# Altium footprint library semicon.PCBLIB: 115 footprints (part 4 of 8)
Each footprint in its own frame and in the unit in brackets; x right, y up, seen from the top. Pads: shape width x height; smd on the part's side, far side on the other; paste and mask are expansions set on the pad; w line width, h text height; cw(c..) or ccw(c..) is an arc to the next point about the centre after c.
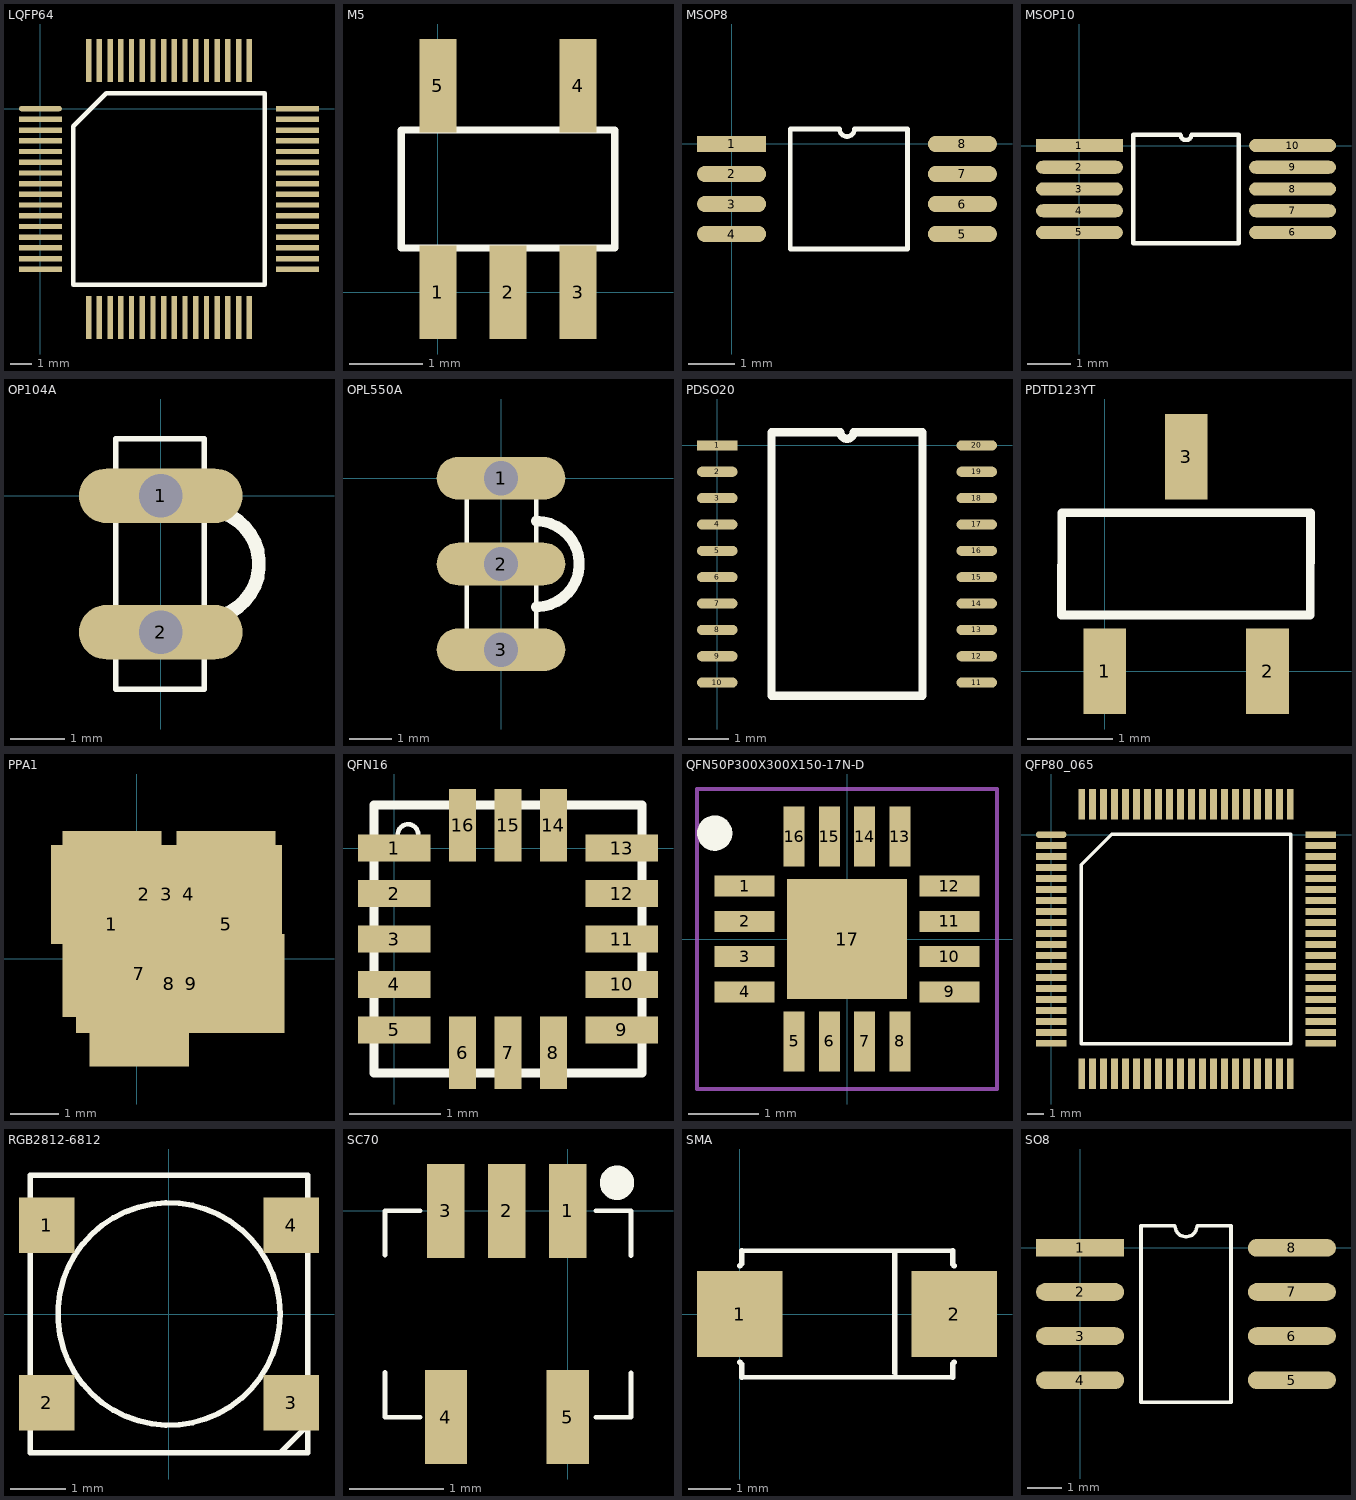
[diagram p3: the footprints below, top view; thin cyan lines are the x and y axes]

## LQFP64 [mm]
pads (64):
  oval 2x0.25 smd: 1(0,0)
  rect 2x0.25 smd: 2(0,-0.5) 3(0,-1) 4(0,-1.5) 5(0,-2) 6(0,-2.5) 7(0,-3) 8(0,-3.5) 9(0,-4) 10(0,-4.5) 11(0,-5) 12(0,-5.5) 13(0,-6) 14(0,-6.5) 15(0,-7) 16(0,-7.5) 33(12,-7.5) 34(12,-7) 35(12,-6.5) 36(12,-6) 37(12,-5.5) 38(12,-5) 39(12,-4.5) 40(12,-4) 41(12,-3.5) 42(12,-3) 43(12,-2.5) 44(12,-2) 45(12,-1.5) 46(12,-1) 47(12,-0.5) 48(12,0)
  rect 0.25x2 smd: 17(2.25,-9.75) 18(2.75,-9.75) 19(3.25,-9.75) 20(3.75,-9.75) 21(4.25,-9.75) 22(4.75,-9.75) 23(5.25,-9.75) 24(5.75,-9.75) 25(6.25,-9.75) 26(6.75,-9.75) 27(7.25,-9.75) 28(7.75,-9.75) 29(8.25,-9.75) 30(8.75,-9.75) 31(9.25,-9.75) 32(9.75,-9.75) 49(9.75,2.25) 50(9.25,2.25) 51(8.75,2.25) 52(8.25,2.25) 53(7.75,2.25) 54(7.25,2.25) 55(6.75,2.25) 56(6.25,2.25) 57(5.75,2.25) 58(5.25,2.25) 59(4.75,2.25) 60(4.25,2.25) 61(3.75,2.25) 62(3.25,2.25) 63(2.75,2.25) 64(2.25,2.25)
Top Overlay:
  lines w0.2: 1.535,-8.215 10.465,-8.215 10.465,0.715 3.07,0.715 1.535,-0.82 1.535,-8.215

## M5 [mil]
pads (5):
  rect 20x50 smd: 1(0,0) 2(37.4,0) 3(74.8,0) 4(74.8,110.24) 5(0,110.24)
Top Overlay:
  lines w3.94: -19.68,23.62 -19.68,86.61 94.49,86.61 94.49,23.62 -19.68,23.62

## MSOP8 [mm]
pads (8):
  rect 1.5x0.35 smd: 1(0,0)
  oval 1.5x0.35 smd: 2(0,-0.65) 3(0,-1.3) 4(0,-1.95) 5(5,-1.95) 6(5,-1.3) 7(5,-0.65) 8(5,0)
Top Overlay:
  lines w0.1: 1.27,-2.275 3.81,-2.275 3.81,0.325 2.662,0.325 cw(c2.5,0.325) 2.338,0.325 1.27,0.325 1.27,-2.275

## MSOP10 [mm]
pads (10):
  rect 2x0.3 smd: 1(0,0)
  oval 2x0.3 smd: 2(0,-0.5) 3(0,-1) 4(0,-1.5) 5(0,-2) 6(4.9,-2) 7(4.9,-1.5) 8(4.9,-1) 9(4.9,-0.5) 10(4.9,0)
Top Overlay:
  lines w0.1: 1.235,-2.25 1.235,0.25 2.325,0.25 ccw(c2.45,0.25) 2.575,0.25 3.665,0.25 3.665,-2.25 1.235,-2.25

## OP104A [mm]
pads (2):
  oval 3x1 hole 0.8: 1(0,0) 2(0,-2.5)
Top Overlay:
  lines w0.1: 0.8,-3.55 -0.825,-3.55 -0.825,1.05 0.8,1.05 0.8,-3.525
  lines w0.254: 0.8,-2.25 ccw(c0.8,-1.25) 0.8,-0.25

## OPL550A [mm]
pads (3):
  oval 3x1 hole 0.8: 1(0,0) 2(0,-2) 3(0,-4)
Top Overlay:
  lines w0.1: -0.8,-4.3 0.825,-4.3 0.825,-4.275 0.825,0.3 -0.8,0.3 -0.8,-4.3
  lines w0.254: 0.825,-3 ccw(c0.825,-2) 0.825,-1

## PDSO20 [mm]
pads (20):
  rect 1x0.25 smd: 1(0,0)
  oval 1x0.25 smd: 2(0,-0.65) 3(0,-1.3) 4(0,-1.95) 5(0,-2.6) 6(0,-3.25) 7(0,-3.9) 8(0,-4.55) 9(0,-5.2) 10(0,-5.85) 11(6.4,-5.85) 12(6.4,-5.2) 13(6.4,-4.55) 14(6.4,-3.9) 15(6.4,-3.25) 16(6.4,-2.6) 17(6.4,-1.95) 18(6.4,-1.3) 19(6.4,-0.65) 20(6.4,0)
Top Overlay:
  lines w0.2: 1.335,-6.175 5.065,-6.175 5.065,0.325 3.362,0.325 cw(c3.2,0.325) 3.037,0.325 1.335,0.325 1.335,-6.175

## PDTD123YT [mm]
pads (3):
  rect 0.5x1 smd: 1(0,0) 2(1.9,0) 3(0.95,2.5)
Top Overlay:
  lines w0.1: -0.505,0.655 -0.5,1.85 2.4,1.85 2.395,0.655 -0.505,0.655

## PPA1 [mil]
pads (8):
  rect 80x150 smd: 1(-20,28) 5(72,28) 7(2,-12)
  rect 150x80 smd: 2(6,52) 3(24,52) 4(42,52) 8(26,-20) 9(44,-20)
Top Layer:
  rectangle: 0,0 52,32
  rectangle: 0,-8 12,0
Top Overlay:
  lines w1: -16,-16 -16,48 68,48 68,-16 -16,-16

## QFN16 [mm]
pads (16):
  rect 0.8x0.3 smd: 1(0,0) 2(0,-0.5) 3(0,-1) 4(0,-1.5) 5(0,-2) 9(2.5,-2) 10(2.5,-1.5) 11(2.5,-1) 12(2.5,-0.5) 13(2.5,0)
  rect 0.3x0.8 smd: 6(0.75,-2.25) 7(1.25,-2.25) 8(1.75,-2.25) 14(1.75,0.25) 15(1.25,0.25) 16(0.75,0.25)
Top Overlay:
  circle w0.051: c0.15,0.15 r0.112
  lines w0.1: -0.225,-2.475 -0.225,0.475 0.6,0.475 2.725,0.475 2.725,0.15 2.725,-2.475 -0.225,-2.475

## QFN50P300X300X150-17N-D [mm]
pads (17):
  rect 0.85x0.3 smd: 1(-1.45,0.75) 2(-1.45,0.25) 3(-1.45,-0.25) 4(-1.45,-0.75) 9(1.45,-0.75) 10(1.45,-0.25) 11(1.45,0.25) 12(1.45,0.75)
  rect 0.3x0.85 smd: 5(-0.75,-1.45) 6(-0.25,-1.45) 7(0.25,-1.45) 8(0.75,-1.45) 13(0.75,1.45) 14(0.25,1.45) 15(-0.25,1.45) 16(-0.75,1.45)
  rect 1.7x1.7 smd: 17(0,0)
Top Overlay:
  circle w0.25: c-1.875,1.5 r0.125
Mechanical 15:
  lines w0.05: -2.125,-2.125 2.125,-2.125 2.125,2.125 -2.125,2.125 -2.125,-2.125
3D body "ADXL337BCPZ-RL7.stp": height 1.5, standoff 0, extent -1.55,-1.55 1.55,1.55

## QFP80_065 [mm]
pads (80):
  oval 1.8x0.4 smd: 1(0,0)
  rect 1.8x0.4 smd: 2(0,-0.65) 3(0,-1.3) 4(0,-1.95) 5(0,-2.6) 6(0,-3.25) 7(0,-3.9) 8(0,-4.55) 9(0,-5.2) 10(0,-5.85) 11(0,-6.5) 12(0,-7.15) 13(0,-7.8) 14(0,-8.45) 15(0,-9.1) 16(0,-9.75) 17(0,-10.4) 18(0,-11.05) 19(0,-11.7) 20(0,-12.35) 41(15.95,-12.35) 42(15.95,-11.7) 43(15.95,-11.05) 44(15.95,-10.4) 45(15.95,-9.75) 46(15.95,-9.1) 47(15.95,-8.45) 48(15.95,-7.8) 49(15.95,-7.15) 50(15.95,-6.5) 51(15.95,-5.85) 52(15.95,-5.2) 53(15.95,-4.55) 54(15.95,-3.9) 55(15.95,-3.25) 56(15.95,-2.6) 57(15.95,-1.95) 58(15.95,-1.3) 59(15.95,-0.65) 60(15.95,0)
  rect 0.4x1.8 smd: 21(1.8,-14.15) 22(2.45,-14.15) 23(3.1,-14.15) 24(3.75,-14.15) 25(4.4,-14.15) 26(5.05,-14.15) 27(5.7,-14.15) 28(6.35,-14.15) 29(7,-14.15) 30(7.65,-14.15) 31(8.3,-14.15) 32(8.95,-14.15) 33(9.6,-14.15) 34(10.25,-14.15) 35(10.9,-14.15) 36(11.55,-14.15) 37(12.2,-14.15) 38(12.85,-14.15) 39(13.5,-14.15) 40(14.15,-14.15) 61(14.15,1.8) 62(13.5,1.8) 63(12.85,1.8) 64(12.2,1.8) 65(11.55,1.8) 66(10.9,1.8) 67(10.25,1.8) 68(9.6,1.8) 69(8.95,1.8) 70(8.3,1.8) 71(7.65,1.8) 72(7,1.8) 73(6.35,1.8) 74(5.7,1.8) 75(5.05,1.8) 76(4.4,1.8) 77(3.75,1.8) 78(3.1,1.8) 79(2.45,1.8) 80(1.8,1.8)
Top Overlay:
  lines w0.2: 1.785,-12.365 1.785,-1.77 3.57,0.015 14.165,0.015 14.165,-12.365 1.785,-12.365

## RGB2812-6812 [mm]
pads (4):
  rect 1x1 smd: 1(-2.2,1.6) 2(-2.2,-1.6) 3(2.2,-1.6) 4(2.2,1.6)
Top Overlay:
  circle w0.1: c0,0 r2
  lines w0.1: 2.5,-2 2,-2.5 ; 2,-2.5 2,-2.5 ; -2.5,-2.5 -2.5,2.5 2.5,2.5 2.5,-2.5 -2.5,-2.5

## SC70 [mm]
pads (5):
  rect 0.4x1 smd: 1(0,0) 2(-0.65,0) 3(-1.3,0)
  rect 0.45x1 smd: 4(-1.3,-2.2) 5(0,-2.2)
Top Overlay:
  circle w0.254: c0.525,0.3 r0.056
  lines w0.05: -1.95,-1.725 -1.95,-2.2 -1.575,-2.2 ; -1.95,-0.475 -1.95,0 -1.575,0 ; 0.3,-2.2 0.675,-2.2 0.675,-1.725 ; 0.3,0 0.675,0 0.675,-0.475

## SMA [mil]
pads (2):
  rect 80x80 smd: 1(0,0) 2(200,0)
Top Overlay:
  lines w3.94: 1.69,-59.06 198.54,-59.06 ; 1.69,59.06 198.54,59.06 ; 144.17,-55.12 144.17,59.06 ; 145.23,-59.06 145.23,59.06
  lines w5: 0,-45 1.69,-46.69 1.69,-59.06 ; 0,45 1.69,46.69 1.69,59.06 ; 198.54,-59.06 198.54,-46.46 200,-45 ; 198.54,59.06 198.54,46.46 200,45

## SO8 [mil]
pads (8):
  rect 100x20 smd: 1(0,0)
  oval 100x20 smd: 2(0,-50) 3(0,-100) 4(0,-150) 5(240,-150) 6(240,-100) 7(240,-50) 8(240,0)
Top Overlay:
  lines w4: 69,-175 69,25 107.5,25 ccw(c120,25) 132.5,25 171,25 171,-175 69,-175